# EAGLE library part TMM-119-XX-X-D (library con-samtec-tmm)
HEADER
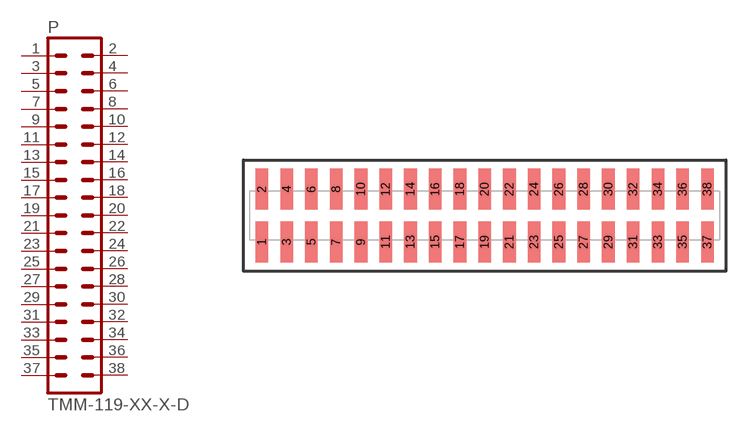
[diagram p16: symbol with the pads of TMM-119-XX-X-D; footprint TMM-119-XX-X-D]

Designator prefix P

## TMM-119-XX-X-D  [TMM-119-XX-X-D]
1  1  pas
2  2  pas
3  3  pas
4  4  pas
5  5  pas
6  6  pas
7  7  pas
8  8  pas
9  9  pas
10  10  pas
11  11  pas
12  12  pas
13  13  pas
14  14  pas
15  15  pas
16  16  pas
17  17  pas
18  18  pas
19  19  pas
20  20  pas
21  21  pas
22  22  pas
23  23  pas
24  24  pas
25  25  pas
26  26  pas
27  27  pas
28  28  pas
29  29  pas
30  30  pas
31  31  pas
32  32  pas
33  33  pas
34  34  pas
35  35  pas
36  36  pas
37  37  pas
38  38  pas

## Footprint TMM-119-XX-X-D (pad centres in mm)
HEADER
smd 1.02 x 3.3: 1 -18,-2.134; 2 -18,2.134; 3 -16,-2.134; 4 -16,2.134; 5 -14,-2.134; 6 -14,2.134; 7 -12,-2.134; 8 -12,2.134; 9 -10,-2.134; 10 -10,2.134; 11 -8,-2.134; 12 -8,2.134; 13 -6,-2.134; 14 -6,2.134; 15 -4,-2.134; 16 -4,2.134; 17 -2,-2.134; 18 -2,2.134; 19 0,-2.134; 20 0,2.134; 21 2,-2.134; 22 2,2.134; 23 4,-2.134; 24 4,2.134; 25 6,-2.134; 26 6,2.134; 27 8,-2.134; 28 8,2.134; 29 10,-2.134; 30 10,2.134; 31 12,-2.134; 32 12,2.134; 33 14,-2.134; 34 14,2.134; 35 16,-2.134; 36 16,2.134; 37 18,-2.134; 38 18,2.134